# Altium schematic symbol library SMD Buttons.SchLib: 8 symbols
Pins are listed as number, name and electrical type; pins without a type are passive.

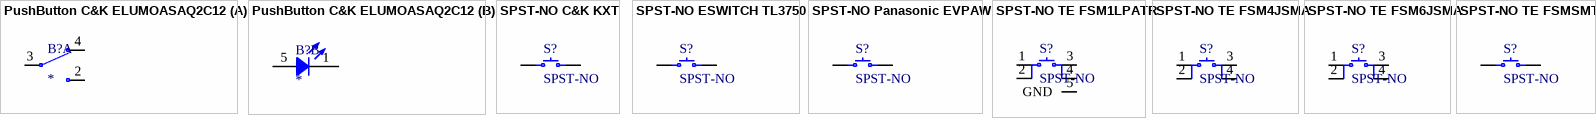
[diagram p0: symbols PushButton C&K ELUMOASAQ2C12 to SPST-NO TE FSMSMTR]

## PushButton C&K ELUMOASAQ2C12
designator B?
footprint C&K ELUMOASAQ2C12
part A pins: 2 NO, 3 C, 4 NC
part B pins: 1 C, 5 A

## SPST-NO C&K KXT
designator S?, comment SPST-NO
footprint C&K KXT
pins: 1, 2

## SPST-NO ESWITCH TL3750
designator S?, comment SPST-NO
footprint ESWITCH TL3750
pins: 1, 2

## SPST-NO Panasonic EVPAW
designator S?, comment SPST-NO
footprint Panasonic EVPAW
pins: 1, 2

## SPST-NO TE FSM1LPATR
designator S?, comment SPST-NO
footprint TE FSM1LPATR
pins: 1, 2, 3, 4, 5 GND

## SPST-NO TE FSM4JSMA
designator S?, comment SPST-NO
footprint TE FSM4JSMA
pins: 1, 2, 3, 4

## SPST-NO TE FSM6JSMA
designator S?, comment SPST-NO
footprint TE FSM6JSMA
pins: 1, 2, 3, 4

## SPST-NO TE FSMSMTR
designator S?, comment SPST-NO
footprint TE FSMSMTR
pins: 1, 2